# Altium schematic symbol library Oscilator.SchLib: 8 symbols
Pins are listed as number, name and electrical type; pins without a type are passive.

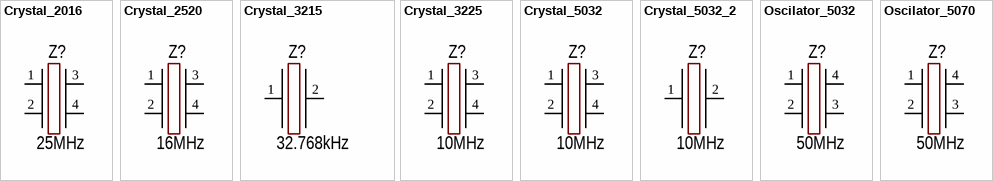
[diagram p0: symbols Crystal_2016 to Oscilator_5070]

## Crystal_2016
designator Z?  Frequency: 25MHz
Manufacturer: Murata Electronics; PartNumber: XRCGB25M000F0L00R0; ValueManufacturerPartNumber: Crystal, 25MHz, 6pF, ±50ppm, case 2016, -30...+85°C; TypeOscilator: Crystal; LoadCapacitance: 6pF; Tolerance: ±50ppm; Package: case 2016; HelpURL: https://www.digikey.com/product-detail/en/murata-electronics-north-america/XRCGB25M000F0L00R0/490-5577-1-ND/2368391; Temperature: -30...+85°C
footprint OSC: 2016
pins: 1, 2, 3, 4

## Crystal_2520
designator Z?  Frequency: 16MHz
Manufacturer: Epson; PartNumber: FA-20H 16.0000MF20X-B; ValueManufacturerPartNumber: Crystal, 16MHz, 16pF, ±20ppm, case 2520, -40...+85°C; TypeOscilator: Crystal; LoadCapacitance: 16pF; Tolerance: ±20ppm; Package: case 2520; HelpURL: https://www.digikey.com/product-detail/en/epson/FA-20H-16.0000MF20X-B/SER4202-ND/7430937; Temperature: -40...+85°C
footprint OSC: 2520
pins: 1, 2, 3, 4

## Crystal_3215
designator Z?  Frequency: 32.768kHz
Manufacturer: Epson; PartNumber: FC-135 32.7680KA-A5; ValueManufacturerPartNumber: Crystal, 32.768kHz, 12.5pF, ±20ppm, case 3215, -40...+85°C; TypeOscilator: Crystal; LoadCapacitance: 12.5pF; Tolerance: ±20ppm; Package: case 3215; HelpURL: https://www.digikey.com/product-detail/en/epson/FC-135-32.7680KA-A5/SER4103CT-ND/6188447; Temperature: -40...+85°C
footprint OSC: 3215
pins: 1, 2

## Crystal_3225
designator Z?  Frequency: 10MHz
Manufacturer: Diodes Incorporated; PartNumber: FL1000002; ValueManufacturerPartNumber: Crystal, 10MHz, 12pF, ±25ppm, case 3225, -40...+85°C; TypeOscilator: Crystal; LoadCapacitance: 12pF; Tolerance: ±25ppm; Package: case 3225; HelpURL: https://www.digikey.com/product-detail/en/diodes-incorporated/FL1000002/FL1000002CT-ND/6042078; Temperature: -40...+85°C
footprint OSC: 3225
pins: 1, 2, 3, 4

## Crystal_5032
designator Z?  Frequency: 10MHz
Manufacturer: Diodes Incorporated; PartNumber: FY1000009; ValueManufacturerPartNumber: Crystal, 10MHz, 20pF, ±30ppm, case 5032, -40...+85°C; TypeOscilator: Crystal; LoadCapacitance: 20pF; Tolerance: ±30ppm; Package: case 5032; HelpURL: https://www.digikey.com/product-detail/en/diodes-incorporated/FY1000009/FY1000009CT-ND/6043911; Temperature: -40...+85°C
footprint OSC: 5032
pins: 1, 2, 3, 4

## Crystal_5032_2
designator Z?  Frequency: 10MHz
Manufacturer: Diodes Incorporated; PartNumber: FY1000009; ValueManufacturerPartNumber: Crystal, 10MHz, 20pF, ±30ppm, case 5032, -40...+85°C; TypeOscilator: Crystal; LoadCapacitance: 20pF; Tolerance: ±30ppm; Package: case 5032; HelpURL: https://www.digikey.com/product-detail/en/diodes-incorporated/FY1000009/FY1000009CT-ND/6043911; Temperature: -40...+85°C
footprint OSC: 5032 -2
pins: 1, 2

## Oscilator_5032
designator Z?  Frequency: 50MHz
Manufacturer: Abracon LLC; PartNumber: ASFL1-50.000MHZ-EC-T; ValueManufacturerPartNumber: Oscilator, 50MHz, HCMOS, ±50ppm, case 5032, -20...+70°C; TypeOscilator: Oscilator; LoadCapacitance: HCMOS; Tolerance: ±50ppm; Package: case 5032; HelpURL: https://www.digikey.com/product-detail/en/abracon-llc/ASFL1-50.000MHZ-EC-T/300-8264-1-ND/687957; Temperature: -20...+70°C
footprint OSC: 5032G
pins: 1, 2, 3, 4

## Oscilator_5070
designator Z?  Frequency: 50MHz
Manufacturer: Epson; PartNumber: FY1000009SG7050CAN 50.000000M-TJGA3; ValueManufacturerPartNumber: Oscilator, 50MHz, CMOS, ±50ppm, case 5070, -40...+85°C; TypeOscilator: Oscilator; LoadCapacitance: CMOS; Tolerance: ±50ppm; Package: case 5070; HelpURL: https://www.digikey.com/product-detail/en/epson/SG7050CAN-50.000000M-TJGA3/SER4004DKR-ND/5175230; Temperature: -40...+85°C
footprint OSC: 5070G
pins: 1, 2, 3, 4